# EAGLE library part 693010010601 (library EagleLibrary_Wuerth_Elektronik_eiCan_Communication_Connectors_v6_20150113)
WR-CRDSIM CARD CONNECTOR HEADER 6PINS=>Code : Con_I-O_COM_CRD_SIM_Mini_693010010601 <http://katalog.we-online.de/media/images/eican/Con_I-O_COM_CRD_SIM_Mini_693010010601_pf2.jpg> Details see: http://katalog.we-online.de/en/em/693_010_010_601 Created 2014-07-09, Karrer Zheng 2014 (C) Würth Elektronik
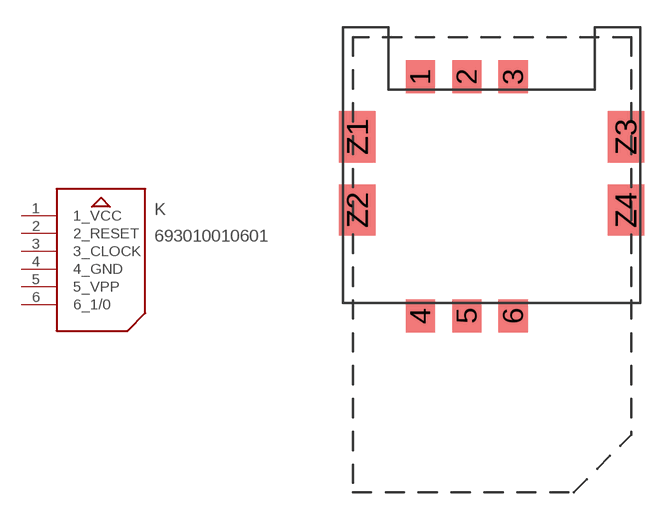
[diagram p86: symbol with the pads of 693010010601; footprint 693010010601]

Designator prefix K

## 693010010601  [693010010601]
1  1_VCC
2  2_RESET
3  3_CLOCK
4  4_GND
5  5_VPP
6  6_1/0

## Footprint 693010010601 (pad centres in mm)
WR-CRD SIM CARD CONNECTOR HEADER 6PINS
smd 1.6 x 1.8: 1 0,13.1; 2 2.54,13.1; 3 5.08,13.1; 4 0,0; 5 2.54,0; 6 5.08,0
smd 2 x 2.8: Z1 -3.45,9.8; Z2 -3.45,5.8; Z3 11.25,9.8; Z4 11.25,5.8